# EAGLE library part NUCLEO-HEADER (library STM32L432-HEADER)
STM32L432 A footprint for a header we plug the nucleo board into.
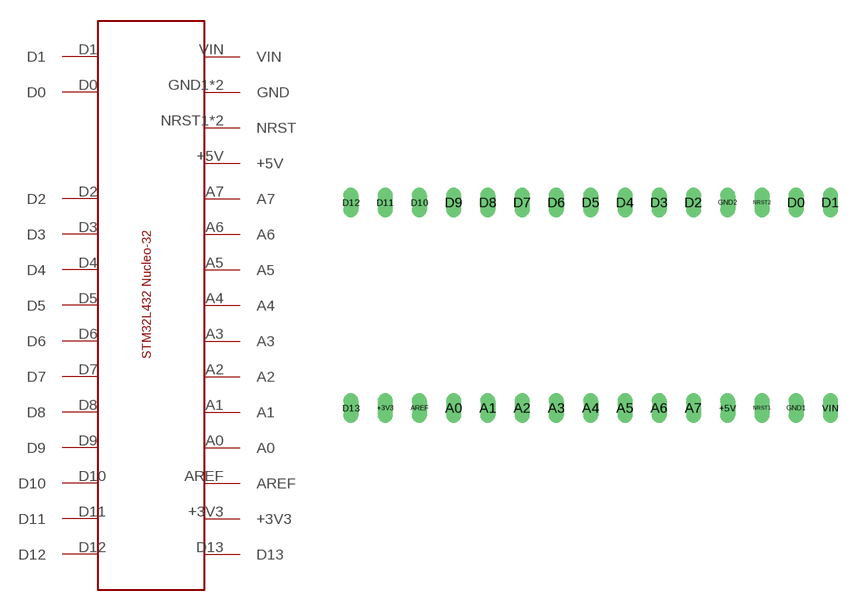
[diagram p0: symbol with the pads of NUCLEO-HEADER; footprint NUCLEO-HEADER]

Designator prefix -

## NUCLEO-HEADER  [NUCLEO-HEADER]
+3V3  +3V3
+5V  +5V
A0  A0
A1  A1
A2  A2
A3  A3
A4  A4
A5  A5
A6  A6
A7  A7
AREF  AREF
D0  D0
D1  D1
D2  D2
D3  D3
D4  D4
D5  D5
D6  D6
D7  D7
D8  D8
D9  D9
D10  D10
D11  D11
D12  D12
D13  D13
GND1  GND
GND2  GND
NRST1  NRST
NRST2  NRST
VIN  VIN

## Footprint NUCLEO-HEADER (pad centres in mm)
drill 0.6 long: +3V3 -15.24,0; +5V 10.16,0; A0 -10.16,0; A1 -7.62,0; A2 -5.08,0; A3 -2.54,0; A4 0,0; A5 2.54,0; A6 5.08,0; A7 7.62,0; AREF -12.7,0; D0 15.24,15.24; D1 17.78,15.24; D2 7.62,15.24; D3 5.08,15.24; D4 2.54,15.24; D5 0,15.24; D6 -2.54,15.24; D7 -5.08,15.24; D8 -7.62,15.24; D9 -10.16,15.24; D10 -12.7,15.24; D11 -15.24,15.24; D12 -17.78,15.24; D13 -17.78,0; GND1 15.24,0; GND2 10.16,15.24; NRST1 12.7,0; NRST2 12.7,15.24; VIN 17.78,0